# Altium integrated library Linear Technology Power Management LDO Linear Regulators.IntLib: 2339 symbols (part 125 of 131)
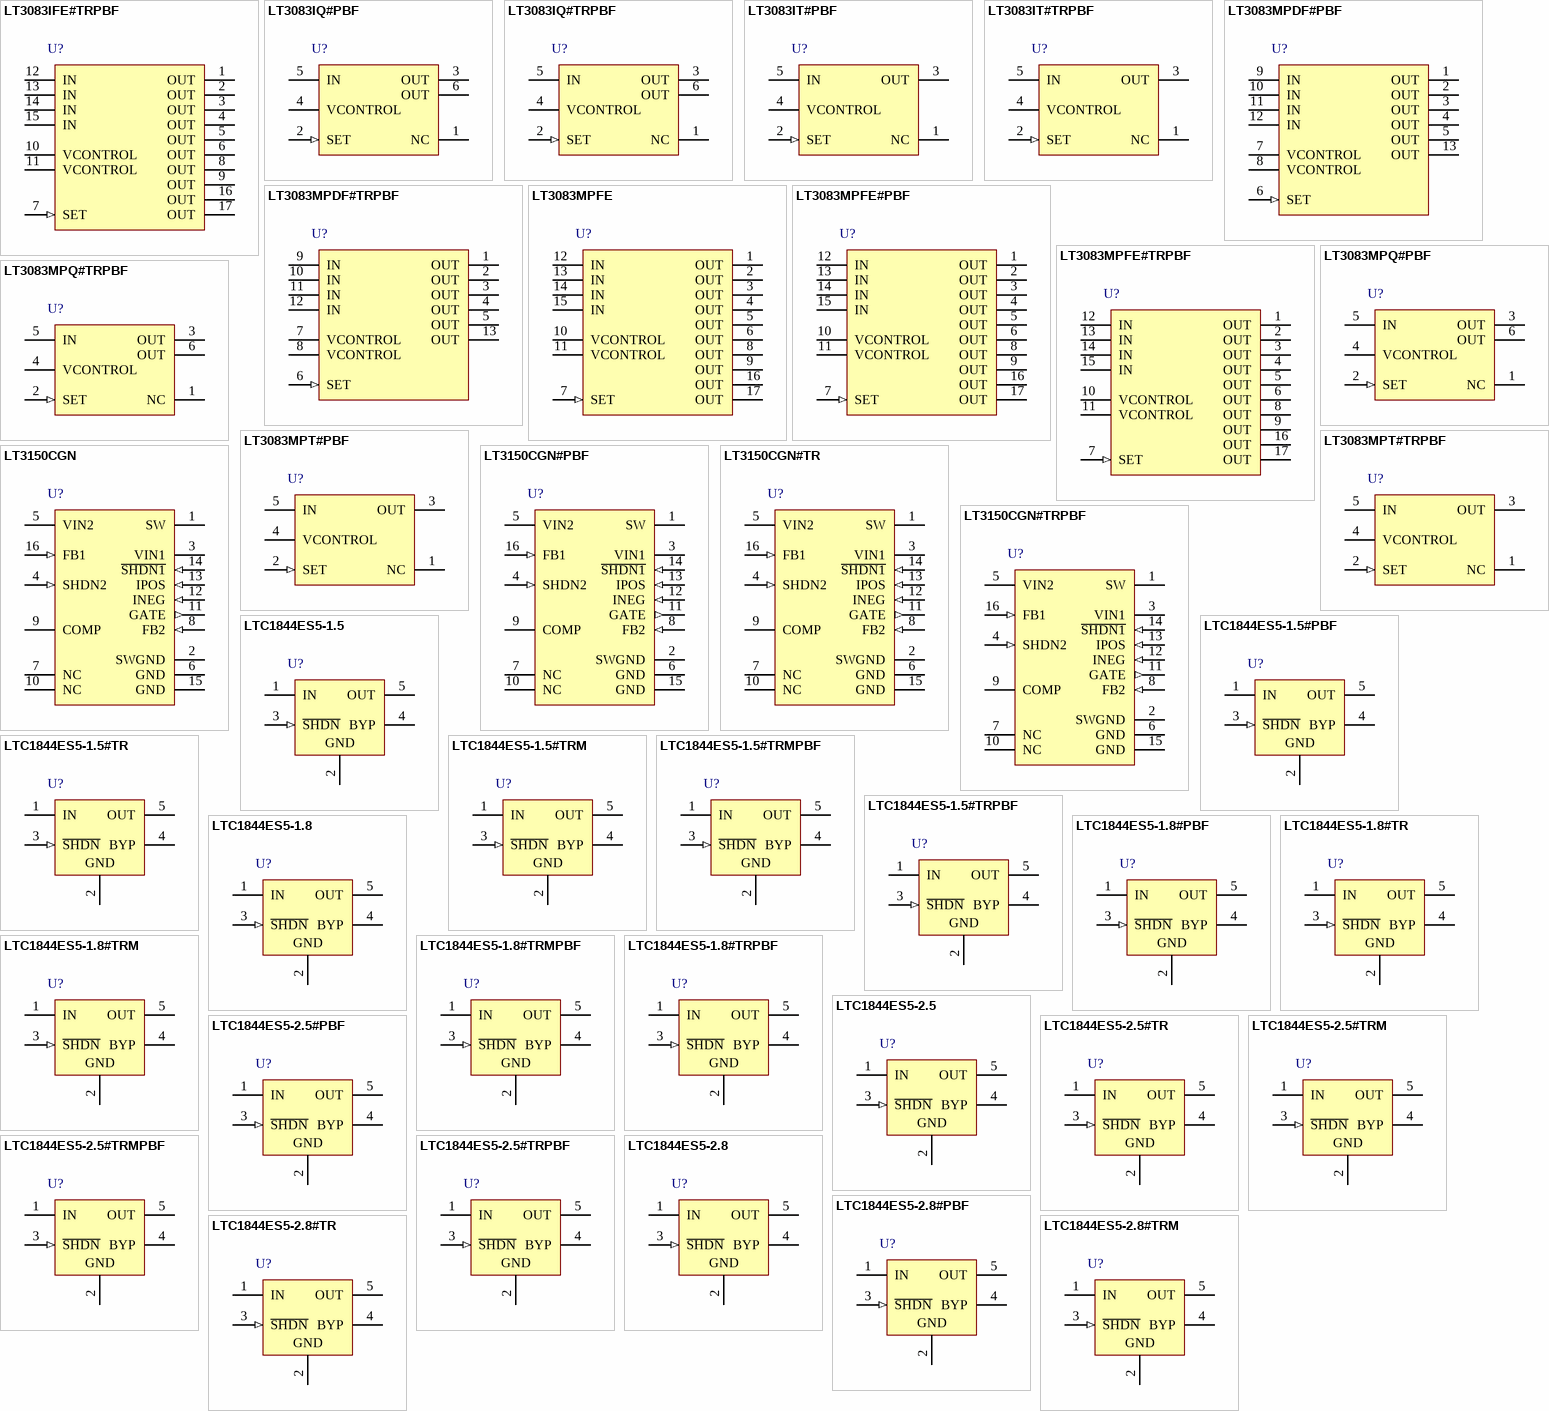
[diagram p193: symbols LT3083IFE#TRPBF to LTC1844ES5-2.8#TRM]

## LT3083MPQ#PBF
designator U?
3 A Single Resistor Low Dropout Regulator, 1.2 to 23 V Vin, Adjustable Vout, 5-pin DPAK (Q-5), -55 to 125 degC, Pb-Free; Manufacturer: Linear Technology; PartNumber: LT3083MPQ#PBF; Discrete Pass Element: no; Dropout Voltage(V): 0.31; Iout(mA): 3000; Isupply(mA): 0.35; Noise(uV): 40; Number of Outputs: 1; Output Voltage: Adj; PSRR(dB): 85; Shutdown Current(uA): 0; Vin Max(V): 23; Vin Min(V): 1.2; DatasheetVersion: Rev. A; PackageVersion: Rev. F, 09/2011; PackageReference: Q-5; PackageDescription: 5-Pin Plastic DD Pak, Body 10.2235 x 8.89 mm, Pitch 1.702 mm; Supplier 1: Digi-Key; Supplier Part Number 1: LT3083MPQ#PBF-ND; Supplier 2: Farnell; Supplier Part Number 2: 2295284; Supplier 3: Newark; Supplier Part Number 3: 27T4276; RoHS: TRUE; Vout Max(V): 23; Vout Min(V): 0; Mounting Technology: Surface Mount; ComponentLink1Description: Manufacturer URL; ComponentLink1URL: http://www.linear.com/; ComponentLink2Description: Datasheet; ComponentLink2URL: http://cds.linear.com/docs/en/datasheet/3083fa.pdf; ComponentLink3Description: Package Specification; ComponentLink3URL: http://cds.linear.com/docs/en/packaging/Q%20DD5%2005-08-1461%20Rev%20F.pdf
footprint LT-Q-5_N (DPAK, 5-Leads, Body 10.22x8.89mm, Pitch 1.702mm, IPC Medium Density)
footprint LT-Q-5_L (DPAK, 5-Leads, Body 10.22x8.89mm, Pitch 1.702mm, IPC High Density)
footprint LT-Q-5_M (DPAK, 5-Leads, Body 10.22x8.89mm, Pitch 1.702mm, IPC Low Density)
pins: 1 NC "No Connection. No Connect pins have no connection to internal circuitry and may be tied to VIN, VCONTROL, VOUT, GND, or floated.", 2 SET (in) "Set Point. This pin is the non-inverting input to the error amplifier and the regulation set point. A fixed current of 50uA flows out of this pin through a single external resistor, which programs the output voltage of the (See Datasheet)", 3 OUT (power) "Output. The exposed pad of the DF package (Pin 13) and the FE package (Pin 17) and the Tab of the DD-PAK and TO-220 packages is an electrical connection to OUT. Connect the exposed pad of the DF and FE packages and the Tab (See Datasheet)", 4 VCONTROL (power) "Bias Supply. This is the supply pin for the control circuitry of the device. Minimum input capacitance is 2.2uF (see Input Capacitance and Stability in the Applications Information section). The current flow into this pin is (See Datasheet)", 5 IN (power) "Power Input. This is the collector to the power device of the LT3083. The output load current is supplied through this pin. Minimum IN capacitance is 10uF (see Input Capacitance and Stability in Applications Information (See Datasheet)", 6 OUT (power) "TAB IS OUT."

## LT3083MPQ#TRPBF
designator U?
3 A Single Resistor Low Dropout Regulator, 1.2 to 23 V Vin, Adjustable Vout, 5-pin DPAK (Q-5), -55 to 125 degC, Pb-Free, Tape and Reel; Manufacturer: Linear Technology; PartNumber: LT3083MPQ#TRPBF; Discrete Pass Element: no; Dropout Voltage(V): 0.31; Iout(mA): 3000; Isupply(mA): 0.35; Noise(uV): 40; Number of Outputs: 1; Output Voltage: Adj; PSRR(dB): 85; Shutdown Current(uA): 0; Vin Max(V): 23; Vin Min(V): 1.2; DatasheetVersion: Rev. A; PackageVersion: Rev. F, 09/2011; PackageReference: Q-5; PackageDescription: 5-Pin Plastic DD Pak, Body 10.2235 x 8.89 mm, Pitch 1.702 mm; Supplier 1: Digi-Key; Supplier Part Number 1: LT3083MPQ#TRPBF-ND; Supplier 2: Newark; Supplier Part Number 2: 27T4277; Packing: Tape and Reel; RoHS: TRUE; Vout Max(V): 23; Vout Min(V): 0; Mounting Technology: Surface Mount; ComponentLink1Description: Manufacturer URL; ComponentLink1URL: http://www.linear.com/; ComponentLink2Description: Datasheet; ComponentLink2URL: http://cds.linear.com/docs/en/datasheet/3083fa.pdf; ComponentLink3Description: Package Specification; ComponentLink3URL: http://cds.linear.com/docs/en/packaging/Q%20DD5%2005-08-1461%20Rev%20F.pdf
footprint LT-Q-5_N (DPAK, 5-Leads, Body 10.22x8.89mm, Pitch 1.702mm, IPC Medium Density)
footprint LT-Q-5_L (DPAK, 5-Leads, Body 10.22x8.89mm, Pitch 1.702mm, IPC High Density)
footprint LT-Q-5_M (DPAK, 5-Leads, Body 10.22x8.89mm, Pitch 1.702mm, IPC Low Density)
pins: 1 NC "No Connection. No Connect pins have no connection to internal circuitry and may be tied to VIN, VCONTROL, VOUT, GND, or floated.", 2 SET (in) "Set Point. This pin is the non-inverting input to the error amplifier and the regulation set point. A fixed current of 50uA flows out of this pin through a single external resistor, which programs the output voltage of the (See Datasheet)", 3 OUT (power) "Output. The exposed pad of the DF package (Pin 13) and the FE package (Pin 17) and the Tab of the DD-PAK and TO-220 packages is an electrical connection to OUT. Connect the exposed pad of the DF and FE packages and the Tab (See Datasheet)", 4 VCONTROL (power) "Bias Supply. This is the supply pin for the control circuitry of the device. Minimum input capacitance is 2.2uF (see Input Capacitance and Stability in the Applications Information section). The current flow into this pin is (See Datasheet)", 5 IN (power) "Power Input. This is the collector to the power device of the LT3083. The output load current is supplied through this pin. Minimum IN capacitance is 10uF (see Input Capacitance and Stability in Applications Information (See Datasheet)", 6 OUT (power) "TAB IS OUT."

## LT3083MPT#PBF
designator U?
3 A Single Resistor Low Dropout Regulator, 1.2 to 23 V Vin, Adjustable Vout, 5-pin FM (T-5), -55 to 125 degC, Pb-Free; Manufacturer: Linear Technology; PartNumber: LT3083MPT#PBF; Discrete Pass Element: no; Dropout Voltage(V): 0.31; Iout(mA): 3000; Isupply(mA): 0.35; Noise(uV): 40; Number of Outputs: 1; Output Voltage: Adj; PSRR(dB): 85; Shutdown Current(uA): 0; Vin Max(V): 23; Vin Min(V): 1.2; DatasheetVersion: Rev. A; PackageVersion: Aug-10; PackageReference: T-5; PackageDescription: 5-Pin Plastic TO-220 (Standard), Body 10.224 x 8.89 mm, Pitch 1.7 mm; Supplier 1: Digi-Key; Supplier Part Number 1: LT3083MPT#PBF-ND; RoHS: TRUE; Vout Max(V): 23; Vout Min(V): 0; Mounting Technology: Through Hole; ComponentLink1Description: Manufacturer URL; ComponentLink1URL: http://www.linear.com/; ComponentLink2Description: Datasheet; ComponentLink2URL: http://cds.linear.com/docs/en/datasheet/3083fa.pdf; ComponentLink3Description: Package Specification; ComponentLink3URL: http://cds.linear.com/docs/en/packaging/TO-220_5_05-08-1421.pdf
footprint LT-T-5-S (FM, 5-Leads, Body 10.2235x4.3815mm, Pitch 1.7mm)
pins: 1 NC "No Connection. No Connect pins have no connection to internal circuitry and may be tied to VIN, VCONTROL, VOUT, GND, or floated.", 2 SET (in) "Set Point. This pin is the non-inverting input to the error amplifier and the regulation set point. A fixed current of 50uA flows out of this  pin through a single external resistor, which programs the output voltage of the (See Datasheet)", 3 OUT (power) "Output. The exposed pad of the DF package (Pin 13) and the FE package (Pin 17) and the Tab of the DD-PAK and TO-220 packages is an electrical connection to OUT. Connect the exposed pad of the DF and FE packages and the Tab (See Datasheet)", 4 VCONTROL (power) "Bias Supply. This is the supply pin for the control circuitry of the device. Minimum input capacitance is 2.2uF (see Input Capacitance and Stability in the Applications Information section). The current flow into this pin is (See Datasheet)", 5 IN (power) "Power Input. This is the collector to the power device of the LT3083. The output load current is supplied through this pin. Minimum IN capacitance is 10uF (see Input Capacitance and Stability in Applications Information (See Datasheet)"

## LT3083MPT#TRPBF
designator U?
3 A Single Resistor Low Dropout Regulator, 1.2 to 23 V Vin, Adjustable Vout, 5-pin FM (T-5), -55 to 125 degC, Pb-Free, Tape and Reel; Manufacturer: Linear Technology; PartNumber: LT3083MPT#TRPBF; Discrete Pass Element: no; Dropout Voltage(V): 0.31; Iout(mA): 3000; Isupply(mA): 0.35; Noise(uV): 40; Number of Outputs: 1; Output Voltage: Adj; PSRR(dB): 85; Shutdown Current(uA): 0; Vin Max(V): 23; Vin Min(V): 1.2; DatasheetVersion: Rev. A; PackageVersion: Aug-10; PackageReference: T-5; PackageDescription: 5-Pin Plastic TO-220 (Standard), Body 10.224 x 8.89 mm, Pitch 1.7 mm; Supplier 1: Digi-Key; Supplier Part Number 1: LT3083MPT#TRPBF-ND; Supplier 2: Newark; Supplier Part Number 2: 27T4279; Packing: Tape and Reel; RoHS: TRUE; Vout Max(V): 23; Vout Min(V): 0; Mounting Technology: Through Hole; ComponentLink1Description: Manufacturer URL; ComponentLink1URL: http://www.linear.com/; ComponentLink2Description: Datasheet; ComponentLink2URL: http://cds.linear.com/docs/en/datasheet/3083fa.pdf; ComponentLink3Description: Package Specification; ComponentLink3URL: http://cds.linear.com/docs/en/packaging/TO-220_5_05-08-1421.pdf
footprint LT-T-5-S (FM, 5-Leads, Body 10.2235x4.3815mm, Pitch 1.7mm)
pins: 1 NC "No Connection. No Connect pins have no connection to internal circuitry and may be tied to VIN, VCONTROL, VOUT, GND, or floated.", 2 SET (in) "Set Point. This pin is the non-inverting input to the error amplifier and the regulation set point. A fixed current of 50uA flows out of this  pin through a single external resistor, which programs the output voltage of the (See Datasheet)", 3 OUT (power) "Output. The exposed pad of the DF package (Pin 13) and the FE package (Pin 17) and the Tab of the DD-PAK and TO-220 packages is an electrical connection to OUT. Connect the exposed pad of the DF and FE packages and the Tab (See Datasheet)", 4 VCONTROL (power) "Bias Supply. This is the supply pin for the control circuitry of the device. Minimum input capacitance is 2.2uF (see Input Capacitance and Stability in the Applications Information section). The current flow into this pin is (See Datasheet)", 5 IN (power) "Power Input. This is the collector to the power device of the LT3083. The output load current is supplied through this pin. Minimum IN capacitance is 10uF (see Input Capacitance and Stability in Applications Information (See Datasheet)"

## LT3150CGN
designator U?
Fast Transient Response, Low Input Voltage, Very Low Dropout Linear Regulator Controller, 1.36 to 10 V Vin, Adjustable Vout, 16-pin SOP (GN-16), 0 to 70 degC; Manufacturer: Linear Technology; PartNumber: LT3150CGN; Discrete Pass Element: yes; Dropout Voltage(V): 0.13; Iout(mA): 10000; Isupply(mA): 12; Number of Outputs: 1; Output Voltage: Adj; Shutdown Current(uA): 25; Vin Max(V): 10; Vin Min(V): 1.36; Vout Max(V): 9.7; Vout Min(V): 1.21; PackageVersion: Rev. B, 03/2012; PackageReference: GN-16; PackageDescription: 16-Pin Plastic SSOP, Body 4.9 x 3.9 mm, Pitch 0.635 mm; Supplier 1: Digi-Key; Supplier Part Number 1: LT3150CGN-ND; RoHS: FALSE; Mounting Technology: Surface Mount; ComponentLink1Description: Manufacturer URL; ComponentLink1URL: http://www.linear.com/; ComponentLink2Description: Datasheet; ComponentLink2URL: http://cds.linear.com/docs/en/datasheet/3150f.pdf; ComponentLink3Description: Package Specification; ComponentLink3URL: http://cds.linear.com/docs/en/packaging/05081641_B_GN16.pdf
footprint LT-GN-16_N (SOP, 16-Leads, Body 4.9x3.9mm, Pitch 0.635mm, IPC Medium Density)
footprint LT-GN-16_L (SOP, 16-Leads, Body 4.9x3.9mm, Pitch 0.635mm, IPC High Density)
footprint LT-GN-16_M (SOP, 16-Leads, Body 4.9x3.9mm, Pitch 0.635mm, IPC Low Density)
pins: 1 SW "Boost Converter Switch Pin. Connect inductor/ diode here. Minimize trace area at this pin to keep EMI down.", 2 SWGND (power) "Switch Ground. Tie directly to the local ground plane and the GNDs at Pins 6 and 15.", 3 VIN1 (power) "Boost Converter Input Supply Pin. Must be locally bypassed.", 4 SHDN2 (in) "This is a multifunction shutdown pin that provides GATE drive latchoff capability. A 15mA current source, that turns on when current limit is activated, charges a capacitor placed in series with SHDN2 to GND and performs a (See Datasheet)", 5 VIN2 (power) "This is the input supply for the linear regulator control circuitry and provides sufficient gate drive compliance for the external N-channel MOSFET. The maximum operating VIN2 is 20V and the minimum operating VIN2 is set by (See Datasheet)", 6 GND (power) "Analog Ground. This pin is also the negative sense terminal for the internal 1.21V reference. Connect the LDO regulator external feedback divider network and frequency compensation components that terminate to GND directly (See Datasheet)", 7 NC "No Connect.", 8 FB2 (in) "This is the inverting input of the error amplifier for the linear regulator. The noninverting input is tied to the internal 1.21V reference. Input bias current for this pin is typically 0.6mA flowing out of the pin. Tie this (See Datasheet)", 9 COMP "This is the high impedance gain node of the error amplifier and is used for external frequency compensation. The transconductance of the error amplifier is 15 millimhos and open-loop voltage gain is typically 84dB. Frequency (See Datasheet)", 10 NC "No Connect.", 11 GATE (out) "This is the output of the error amplifier that drives N-channel MOSFETs with up to 5000pF of “effective" gate capacitance. The typical open-loop output impedance is 2W. When using low input capacitance MOSFETs(See Datasheet)", 12 INEG (in) "This is the negative sense terminal of the current limit amplifier. A small sense resistor is connected in series with the drain of the external MOSFET and is connected between the IPOS and INEG pins. A 50mV threshold (See Datasheet)", 13 IPOS (in) "This is the positive sense terminal of the current limit amplifier. Tie this pin directly to the main input voltage from which the output voltage is regulated.", 14 ~{SHDN1} (in) "Boost Regulator Shutdown Pin. Tie to 1V or more to enable device. Ground to shut down. This pin must not float for proper operation. Connect S\H\D\N\1\ externally as it does not incorporate an internal pull-up or pull-down.", 15 GND (power) "Boost Converter Analog Ground. This pin is also the negative sense terminal for the FB1 1.23V reference. Connect the external feedback divider network, which sets the VIN2 supply voltage and terminates to GND, directly to (See Datasheet)", 16 FB1 (in) "Boost Regulator Feedback Pin. Reference voltage is 1.23V. Connect resistive divider tap here. Minimize trace area at FB1. Set VOUT = VIN2 according to VOUT = 1.23V(1 + R1/R2)."

## LT3150CGN#PBF
designator U?
Fast Transient Response, Low Input Voltage, Very Low Dropout Linear Regulator Controller, 1.36 to 10 V Vin, Adjustable Vout, 16-pin SOP (GN-16), 0 to 70 degC, Pb-Free; Manufacturer: Linear Technology; PartNumber: LT3150CGN#PBF; Discrete Pass Element: yes; Dropout Voltage(V): 0.13; Iout(mA): 10000; Isupply(mA): 12; Number of Outputs: 1; Output Voltage: Adj; Shutdown Current(uA): 25; Vin Max(V): 10; Vin Min(V): 1.36; Vout Max(V): 9.7; Vout Min(V): 1.21; PackageVersion: Rev. B, 03/2012; PackageReference: GN-16; PackageDescription: 16-Pin Plastic SSOP, Body 4.9 x 3.9 mm, Pitch 0.635 mm; Supplier 1: Digi-Key; Supplier Part Number 1: LT3150CGN#PBF-ND; Supplier 2: Farnell; Supplier Part Number 2: 1273642; Supplier 3: Newark; Supplier Part Number 3: 57M8058; RoHS: TRUE; Mounting Technology: Surface Mount; ComponentLink1Description: Manufacturer URL; ComponentLink1URL: http://www.linear.com/; ComponentLink2Description: Datasheet; ComponentLink2URL: http://cds.linear.com/docs/en/datasheet/3150f.pdf; ComponentLink3Description: Package Specification; ComponentLink3URL: http://cds.linear.com/docs/en/packaging/05081641_B_GN16.pdf
footprint LT-GN-16_N (SOP, 16-Leads, Body 4.9x3.9mm, Pitch 0.635mm, IPC Medium Density)
footprint LT-GN-16_L (SOP, 16-Leads, Body 4.9x3.9mm, Pitch 0.635mm, IPC High Density)
footprint LT-GN-16_M (SOP, 16-Leads, Body 4.9x3.9mm, Pitch 0.635mm, IPC Low Density)
pins: 1 SW "Boost Converter Switch Pin. Connect inductor/ diode here. Minimize trace area at this pin to keep EMI down.", 2 SWGND (power) "Switch Ground. Tie directly to the local ground plane and the GNDs at Pins 6 and 15.", 3 VIN1 (power) "Boost Converter Input Supply Pin. Must be locally bypassed.", 4 SHDN2 (in) "This is a multifunction shutdown pin that provides GATE drive latchoff capability. A 15mA current source, that turns on when current limit is activated, charges a capacitor placed in series with SHDN2 to GND and performs a (See Datasheet)", 5 VIN2 (power) "This is the input supply for the linear regulator control circuitry and provides sufficient gate drive compliance for the external N-channel MOSFET. The maximum operating VIN2 is 20V and the minimum operating VIN2 is set by (See Datasheet)", 6 GND (power) "Analog Ground. This pin is also the negative sense terminal for the internal 1.21V reference. Connect the LDO regulator external feedback divider network and frequency compensation components that terminate to GND directly (See Datasheet)", 7 NC "No Connect.", 8 FB2 (in) "This is the inverting input of the error amplifier for the linear regulator. The noninverting input is tied to the internal 1.21V reference. Input bias current for this pin is typically 0.6mA flowing out of the pin. Tie this (See Datasheet)", 9 COMP "This is the high impedance gain node of the error amplifier and is used for external frequency compensation. The transconductance of the error amplifier is 15 millimhos and open-loop voltage gain is typically 84dB. Frequency (See Datasheet)", 10 NC "No Connect.", 11 GATE (out) "This is the output of the error amplifier that drives N-channel MOSFETs with up to 5000pF of “effective" gate capacitance. The typical open-loop output impedance is 2W. When using low input capacitance MOSFETs(See Datasheet)", 12 INEG (in) "This is the negative sense terminal of the current limit amplifier. A small sense resistor is connected in series with the drain of the external MOSFET and is connected between the IPOS and INEG pins. A 50mV threshold (See Datasheet)", 13 IPOS (in) "This is the positive sense terminal of the current limit amplifier. Tie this pin directly to the main input voltage from which the output voltage is regulated.", 14 ~{SHDN1} (in) "Boost Regulator Shutdown Pin. Tie to 1V or more to enable device. Ground to shut down. This pin must not float for proper operation. Connect S\H\D\N\1\ externally as it does not incorporate an internal pull-up or pull-down.", 15 GND (power) "Boost Converter Analog Ground. This pin is also the negative sense terminal for the FB1 1.23V reference. Connect the external feedback divider network, which sets the VIN2 supply voltage and terminates to GND, directly to (See Datasheet)", 16 FB1 (in) "Boost Regulator Feedback Pin. Reference voltage is 1.23V. Connect resistive divider tap here. Minimize trace area at FB1. Set VOUT = VIN2 according to VOUT = 1.23V(1 + R1/R2)."

## LT3150CGN#TR
designator U?
Fast Transient Response, Low Input Voltage, Very Low Dropout Linear Regulator Controller, 1.36 to 10 V Vin, Adjustable Vout, 16-pin SOP (GN-16), 0 to 70 degC, Tape and Reel; Manufacturer: Linear Technology; PartNumber: LT3150CGN#TR; Discrete Pass Element: yes; Dropout Voltage(V): 0.13; Iout(mA): 10000; Isupply(mA): 12; Number of Outputs: 1; Output Voltage: Adj; Shutdown Current(uA): 25; Vin Max(V): 10; Vin Min(V): 1.36; Vout Max(V): 9.7; Vout Min(V): 1.21; PackageVersion: Rev. B, 03/2012; PackageReference: GN-16; PackageDescription: 16-Pin Plastic SSOP, Body 4.9 x 3.9 mm, Pitch 0.635 mm; Supplier 1: Digi-Key; Supplier Part Number 1: LT3150CGN#TR-ND; Packing: Tape and Reel; RoHS: FALSE; Mounting Technology: Surface Mount; ComponentLink1Description: Manufacturer URL; ComponentLink1URL: http://www.linear.com/; ComponentLink2Description: Datasheet; ComponentLink2URL: http://cds.linear.com/docs/en/datasheet/3150f.pdf; ComponentLink3Description: Package Specification; ComponentLink3URL: http://cds.linear.com/docs/en/packaging/05081641_B_GN16.pdf
footprint LT-GN-16_N (SOP, 16-Leads, Body 4.9x3.9mm, Pitch 0.635mm, IPC Medium Density)
footprint LT-GN-16_L (SOP, 16-Leads, Body 4.9x3.9mm, Pitch 0.635mm, IPC High Density)
footprint LT-GN-16_M (SOP, 16-Leads, Body 4.9x3.9mm, Pitch 0.635mm, IPC Low Density)
pins: 1 SW "Boost Converter Switch Pin. Connect inductor/ diode here. Minimize trace area at this pin to keep EMI down.", 2 SWGND (power) "Switch Ground. Tie directly to the local ground plane and the GNDs at Pins 6 and 15.", 3 VIN1 (power) "Boost Converter Input Supply Pin. Must be locally bypassed.", 4 SHDN2 (in) "This is a multifunction shutdown pin that provides GATE drive latchoff capability. A 15mA current source, that turns on when current limit is activated, charges a capacitor placed in series with SHDN2 to GND and performs a (See Datasheet)", 5 VIN2 (power) "This is the input supply for the linear regulator control circuitry and provides sufficient gate drive compliance for the external N-channel MOSFET. The maximum operating VIN2 is 20V and the minimum operating VIN2 is set by (See Datasheet)", 6 GND (power) "Analog Ground. This pin is also the negative sense terminal for the internal 1.21V reference. Connect the LDO regulator external feedback divider network and frequency compensation components that terminate to GND directly (See Datasheet)", 7 NC "No Connect.", 8 FB2 (in) "This is the inverting input of the error amplifier for the linear regulator. The noninverting input is tied to the internal 1.21V reference. Input bias current for this pin is typically 0.6mA flowing out of the pin. Tie this (See Datasheet)", 9 COMP "This is the high impedance gain node of the error amplifier and is used for external frequency compensation. The transconductance of the error amplifier is 15 millimhos and open-loop voltage gain is typically 84dB. Frequency (See Datasheet)", 10 NC "No Connect.", 11 GATE (out) "This is the output of the error amplifier that drives N-channel MOSFETs with up to 5000pF of “effective" gate capacitance. The typical open-loop output impedance is 2W. When using low input capacitance MOSFETs(See Datasheet)", 12 INEG (in) "This is the negative sense terminal of the current limit amplifier. A small sense resistor is connected in series with the drain of the external MOSFET and is connected between the IPOS and INEG pins. A 50mV threshold (See Datasheet)", 13 IPOS (in) "This is the positive sense terminal of the current limit amplifier. Tie this pin directly to the main input voltage from which the output voltage is regulated.", 14 ~{SHDN1} (in) "Boost Regulator Shutdown Pin. Tie to 1V or more to enable device. Ground to shut down. This pin must not float for proper operation. Connect S\H\D\N\1\ externally as it does not incorporate an internal pull-up or pull-down.", 15 GND (power) "Boost Converter Analog Ground. This pin is also the negative sense terminal for the FB1 1.23V reference. Connect the external feedback divider network, which sets the VIN2 supply voltage and terminates to GND, directly to (See Datasheet)", 16 FB1 (in) "Boost Regulator Feedback Pin. Reference voltage is 1.23V. Connect resistive divider tap here. Minimize trace area at FB1. Set VOUT = VIN2 according to VOUT = 1.23V(1 + R1/R2)."

## LT3150CGN#TRPBF
designator U?
Fast Transient Response, Low Input Voltage, Very Low Dropout Linear Regulator Controller, 1.36 to 10 V Vin, Adjustable Vout, 16-pin SOP (GN-16), 0 to 70 degC, Pb-Free, Tape and Reel; Manufacturer: Linear Technology; PartNumber: LT3150CGN#TRPBF; Discrete Pass Element: yes; Dropout Voltage(V): 0.13; Iout(mA): 10000; Isupply(mA): 12; Number of Outputs: 1; Output Voltage: Adj; Shutdown Current(uA): 25; Vin Max(V): 10; Vin Min(V): 1.36; Vout Max(V): 9.7; Vout Min(V): 1.21; PackageVersion: Rev. B, 03/2012; PackageReference: GN-16; PackageDescription: 16-Pin Plastic SSOP, Body 4.9 x 3.9 mm, Pitch 0.635 mm; Supplier 1: Digi-Key; Supplier Part Number 1: LT3150CGN#TRPBF-ND; Packing: Tape and Reel; RoHS: TRUE; Mounting Technology: Surface Mount; ComponentLink1Description: Manufacturer URL; ComponentLink1URL: http://www.linear.com/; ComponentLink2Description: Datasheet; ComponentLink2URL: http://cds.linear.com/docs/en/datasheet/3150f.pdf; ComponentLink3Description: Package Specification; ComponentLink3URL: http://cds.linear.com/docs/en/packaging/05081641_B_GN16.pdf
footprint LT-GN-16_N (SOP, 16-Leads, Body 4.9x3.9mm, Pitch 0.635mm, IPC Medium Density)
footprint LT-GN-16_L (SOP, 16-Leads, Body 4.9x3.9mm, Pitch 0.635mm, IPC High Density)
footprint LT-GN-16_M (SOP, 16-Leads, Body 4.9x3.9mm, Pitch 0.635mm, IPC Low Density)
pins: 1 SW "Boost Converter Switch Pin. Connect inductor/ diode here. Minimize trace area at this pin to keep EMI down.", 2 SWGND (power) "Switch Ground. Tie directly to the local ground plane and the GNDs at Pins 6 and 15.", 3 VIN1 (power) "Boost Converter Input Supply Pin. Must be locally bypassed.", 4 SHDN2 (in) "This is a multifunction shutdown pin that provides GATE drive latchoff capability. A 15mA current source, that turns on when current limit is activated, charges a capacitor placed in series with SHDN2 to GND and performs a (See Datasheet)", 5 VIN2 (power) "This is the input supply for the linear regulator control circuitry and provides sufficient gate drive compliance for the external N-channel MOSFET. The maximum operating VIN2 is 20V and the minimum operating VIN2 is set by (See Datasheet)", 6 GND (power) "Analog Ground. This pin is also the negative sense terminal for the internal 1.21V reference. Connect the LDO regulator external feedback divider network and frequency compensation components that terminate to GND directly (See Datasheet)", 7 NC "No Connect.", 8 FB2 (in) "This is the inverting input of the error amplifier for the linear regulator. The noninverting input is tied to the internal 1.21V reference. Input bias current for this pin is typically 0.6mA flowing out of the pin. Tie this (See Datasheet)", 9 COMP "This is the high impedance gain node of the error amplifier and is used for external frequency compensation. The transconductance of the error amplifier is 15 millimhos and open-loop voltage gain is typically 84dB. Frequency (See Datasheet)", 10 NC "No Connect.", 11 GATE (out) "This is the output of the error amplifier that drives N-channel MOSFETs with up to 5000pF of “effective" gate capacitance. The typical open-loop output impedance is 2W. When using low input capacitance MOSFETs(See Datasheet)", 12 INEG (in) "This is the negative sense terminal of the current limit amplifier. A small sense resistor is connected in series with the drain of the external MOSFET and is connected between the IPOS and INEG pins. A 50mV threshold (See Datasheet)", 13 IPOS (in) "This is the positive sense terminal of the current limit amplifier. Tie this pin directly to the main input voltage from which the output voltage is regulated.", 14 ~{SHDN1} (in) "Boost Regulator Shutdown Pin. Tie to 1V or more to enable device. Ground to shut down. This pin must not float for proper operation. Connect S\H\D\N\1\ externally as it does not incorporate an internal pull-up or pull-down.", 15 GND (power) "Boost Converter Analog Ground. This pin is also the negative sense terminal for the FB1 1.23V reference. Connect the external feedback divider network, which sets the VIN2 supply voltage and terminates to GND, directly to (See Datasheet)", 16 FB1 (in) "Boost Regulator Feedback Pin. Reference voltage is 1.23V. Connect resistive divider tap here. Minimize trace area at FB1. Set VOUT = VIN2 according to VOUT = 1.23V(1 + R1/R2)."

## LTC1844ES5-1.5
designator U?
150 mA, Micropower, Low Noise, VLDO Linear Regulator, 1.6 to 6.5 V Vin, 1.5 V Vout, 5-pin SOT23 (S5-5), -40 to 125 degC; Manufacturer: Linear Technology; PartNumber: LTC1844ES5-1.5; Discrete Pass Element: no; Dropout Voltage(V): 0.35; Iout(mA): 150; Isupply(mA): 0.035; Noise(uV): 60; Number of Outputs: 1; Output Voltage: 1.5 V; PSRR(dB): 50; Shutdown Current(uA): 0.01; Vin Max(V): 6.5; Vin Min(V): 1.6; DatasheetVersion: Rev. A; PackageVersion: Jun-10; PackageReference: S5-5; PackageDescription: 5-Pin Plastic TSOT-23, Body 1.63 x 2.90 mm, Pitch 0.95 mm; RoHS: FALSE; Mounting Technology: Surface Mount; Code_JEDEC: MO-193; ComponentLink1Description: Manufacturer URL; ComponentLink1URL: http://www.linear.com/; ComponentLink2Description: Datasheet; ComponentLink2URL: http://cds.linear.com/docs/en/datasheet/1844fa.pdf; ComponentLink3Description: Package Specification; ComponentLink3URL: http://cds.linear.com/docs/en/packaging/SOT_5_05-08-1635.pdf
footprint LT-S5-5-TSOT-23_N (SOT23, 5-Leads, Body 2.90x1.63mm, Pitch 0.95mm, IPC Medium Density)
footprint LT-S5-5-TSOT-23_L (SOT23, 5-Leads, Body 2.90x1.63mm, Pitch 0.95mm, IPC High Density)
footprint LT-S5-5-TSOT-23_M (SOT23, 5-Leads, Body 2.90x1.63mm, Pitch 0.95mm, IPC Low Density)
pins: 1 IN (power) "Power is supplied to the device through the IN pin.", 2 GND (power) "Ground.", 3 ~{SHDN} (in) "Shutdown.", 4 BYP "Bypass. If not used, this pin must be left unconnected.", 5 OUT (power) "The output supplies power to the load. A minimum output capacitor of 1uF is required to prevent oscillations. Larger output capacitors will be required for applications with large transient loads to limit peak voltage (See Datasheet)"

## LTC1844ES5-1.5#PBF
designator U?
150 mA, Micropower, Low Noise, VLDO Linear Regulator, 1.6 to 6.5 V Vin, 1.5 V Vout, 5-pin SOT23 (S5-5), -40 to 125 degC, Pb-Free; Manufacturer: Linear Technology; PartNumber: LTC1844ES5-1.5#PBF; Discrete Pass Element: no; Dropout Voltage(V): 0.35; Iout(mA): 150; Isupply(mA): 0.035; Noise(uV): 60; Number of Outputs: 1; Output Voltage: 1.5 V; PSRR(dB): 50; Shutdown Current(uA): 0.01; Vin Max(V): 6.5; Vin Min(V): 1.6; DatasheetVersion: Rev. A; PackageVersion: Jun-10; PackageReference: S5-5; PackageDescription: 5-Pin Plastic TSOT-23, Body 1.63 x 2.90 mm, Pitch 0.95 mm; Supplier 1: Farnell; Supplier Part Number 1: 2295287; Supplier 2: Newark; Supplier Part Number 2: 78T2529; RoHS: TRUE; Mounting Technology: Surface Mount; Code_JEDEC: MO-193; ComponentLink1Description: Manufacturer URL; ComponentLink1URL: http://www.linear.com/; ComponentLink2Description: Datasheet; ComponentLink2URL: http://cds.linear.com/docs/en/datasheet/1844fa.pdf; ComponentLink3Description: Package Specification; ComponentLink3URL: http://cds.linear.com/docs/en/packaging/SOT_5_05-08-1635.pdf
footprint LT-S5-5-TSOT-23_N (SOT23, 5-Leads, Body 2.90x1.63mm, Pitch 0.95mm, IPC Medium Density)
footprint LT-S5-5-TSOT-23_L (SOT23, 5-Leads, Body 2.90x1.63mm, Pitch 0.95mm, IPC High Density)
footprint LT-S5-5-TSOT-23_M (SOT23, 5-Leads, Body 2.90x1.63mm, Pitch 0.95mm, IPC Low Density)
pins: 1 IN (power) "Power is supplied to the device through the IN pin.", 2 GND (power) "Ground.", 3 ~{SHDN} (in) "Shutdown.", 4 BYP "Bypass. If not used, this pin must be left unconnected.", 5 OUT (power) "The output supplies power to the load. A minimum output capacitor of 1uF is required to prevent oscillations. Larger output capacitors will be required for applications with large transient loads to limit peak voltage (See Datasheet)"

## LTC1844ES5-1.5#TR
designator U?
150 mA, Micropower, Low Noise, VLDO Linear Regulator, 1.6 to 6.5 V Vin, 1.5 V Vout, 5-pin SOT23 (S5-5), -40 to 125 degC, Tape and Reel; Manufacturer: Linear Technology; PartNumber: LTC1844ES5-1.5#TR; Discrete Pass Element: no; Dropout Voltage(V): 0.35; Iout(mA): 150; Isupply(mA): 0.035; Noise(uV): 60; Number of Outputs: 1; Output Voltage: 1.5 V; PSRR(dB): 50; Shutdown Current(uA): 0.01; Vin Max(V): 6.5; Vin Min(V): 1.6; DatasheetVersion: Rev. A; PackageVersion: Jun-10; PackageReference: S5-5; PackageDescription: 5-Pin Plastic TSOT-23, Body 1.63 x 2.90 mm, Pitch 0.95 mm; Supplier 1: Digi-Key; Supplier Part Number 1: LTC1844ES5-1.5#TR-ND; Packing: Tape and Reel; RoHS: FALSE; Mounting Technology: Surface Mount; Code_JEDEC: MO-193; ComponentLink1Description: Manufacturer URL; ComponentLink1URL: http://www.linear.com/; ComponentLink2Description: Datasheet; ComponentLink2URL: http://cds.linear.com/docs/en/datasheet/1844fa.pdf; ComponentLink3Description: Package Specification; ComponentLink3URL: http://cds.linear.com/docs/en/packaging/SOT_5_05-08-1635.pdf
footprint LT-S5-5-TSOT-23_N (SOT23, 5-Leads, Body 2.90x1.63mm, Pitch 0.95mm, IPC Medium Density)
footprint LT-S5-5-TSOT-23_L (SOT23, 5-Leads, Body 2.90x1.63mm, Pitch 0.95mm, IPC High Density)
footprint LT-S5-5-TSOT-23_M (SOT23, 5-Leads, Body 2.90x1.63mm, Pitch 0.95mm, IPC Low Density)
pins: 1 IN (power) "Power is supplied to the device through the IN pin.", 2 GND (power) "Ground.", 3 ~{SHDN} (in) "Shutdown.", 4 BYP "Bypass. If not used, this pin must be left unconnected.", 5 OUT (power) "The output supplies power to the load. A minimum output capacitor of 1uF is required to prevent oscillations. Larger output capacitors will be required for applications with large transient loads to limit peak voltage (See Datasheet)"

## LTC1844ES5-1.5#TRM
designator U?
150 mA, Micropower, Low Noise, VLDO Linear Regulator, 1.6 to 6.5 V Vin, 1.5 V Vout, 5-pin SOT23 (S5-5), -40 to 125 degC, Mini Tape and Reel; Manufacturer: Linear Technology; PartNumber: LTC1844ES5-1.5#TRM; Discrete Pass Element: no; Dropout Voltage(V): 0.35; Iout(mA): 150; Isupply(mA): 0.035; Noise(uV): 60; Number of Outputs: 1; Output Voltage: 1.5 V; PSRR(dB): 50; Shutdown Current(uA): 0.01; Vin Max(V): 6.5; Vin Min(V): 1.6; DatasheetVersion: Rev. A; PackageVersion: Jun-10; PackageReference: S5-5; PackageDescription: 5-Pin Plastic TSOT-23, Body 1.63 x 2.90 mm, Pitch 0.95 mm; Supplier 1: Digi-Key; Supplier Part Number 1: LTC1844ES5-1.5#TRMCT-ND; Packing: Mini Tape and Reel; RoHS: FALSE; Mounting Technology: Surface Mount; Code_JEDEC: MO-193; ComponentLink1Description: Manufacturer URL; ComponentLink1URL: http://www.linear.com/; ComponentLink2Description: Datasheet; ComponentLink2URL: http://cds.linear.com/docs/en/datasheet/1844fa.pdf; ComponentLink3Description: Package Specification; ComponentLink3URL: http://cds.linear.com/docs/en/packaging/SOT_5_05-08-1635.pdf
footprint LT-S5-5-TSOT-23_N (SOT23, 5-Leads, Body 2.90x1.63mm, Pitch 0.95mm, IPC Medium Density)
footprint LT-S5-5-TSOT-23_L (SOT23, 5-Leads, Body 2.90x1.63mm, Pitch 0.95mm, IPC High Density)
footprint LT-S5-5-TSOT-23_M (SOT23, 5-Leads, Body 2.90x1.63mm, Pitch 0.95mm, IPC Low Density)
pins: 1 IN (power) "Power is supplied to the device through the IN pin.", 2 GND (power) "Ground.", 3 ~{SHDN} (in) "Shutdown.", 4 BYP "Bypass. If not used, this pin must be left unconnected.", 5 OUT (power) "The output supplies power to the load. A minimum output capacitor of 1uF is required to prevent oscillations. Larger output capacitors will be required for applications with large transient loads to limit peak voltage (See Datasheet)"

## LTC1844ES5-1.5#TRMPBF
designator U?
150 mA, Micropower, Low Noise, VLDO Linear Regulator, 1.6 to 6.5 V Vin, 1.5 V Vout, 5-pin SOT23 (S5-5), -40 to 125 degC, Pb-Free, Mini Tape and Reel; Manufacturer: Linear Technology; PartNumber: LTC1844ES5-1.5#TRMPBF; Discrete Pass Element: no; Dropout Voltage(V): 0.35; Iout(mA): 150; Isupply(mA): 0.035; Noise(uV): 60; Number of Outputs: 1; Output Voltage: 1.5 V; PSRR(dB): 50; Shutdown Current(uA): 0.01; Vin Max(V): 6.5; Vin Min(V): 1.6; DatasheetVersion: Rev. A; PackageVersion: Jun-10; PackageReference: S5-5; PackageDescription: 5-Pin Plastic TSOT-23, Body 1.63 x 2.90 mm, Pitch 0.95 mm; Supplier 1: Digi-Key; Supplier Part Number 1: LTC1844ES5-1.5#TRMPBFTR-ND; Supplier 2: Digi-Key; Supplier Part Number 2: LTC1844ES5-1.5#TRMPBFCT-ND; Supplier 3: Digi-Key; Supplier Part Number 3: LTC1844ES5-1.5#TRMPBFDKR-ND; Supplier 4: Newark; Supplier Part Number 4: 56M3915; Packing: Mini Tape and Reel; RoHS: TRUE; Mounting Technology: Surface Mount; Code_JEDEC: MO-193; ComponentLink1Description: Manufacturer URL; ComponentLink1URL: http://www.linear.com/; ComponentLink2Description: Datasheet; ComponentLink2URL: http://cds.linear.com/docs/en/datasheet/1844fa.pdf; ComponentLink3Description: Package Specification; ComponentLink3URL: http://cds.linear.com/docs/en/packaging/SOT_5_05-08-1635.pdf
footprint LT-S5-5-TSOT-23_N (SOT23, 5-Leads, Body 2.90x1.63mm, Pitch 0.95mm, IPC Medium Density)
footprint LT-S5-5-TSOT-23_L (SOT23, 5-Leads, Body 2.90x1.63mm, Pitch 0.95mm, IPC High Density)
footprint LT-S5-5-TSOT-23_M (SOT23, 5-Leads, Body 2.90x1.63mm, Pitch 0.95mm, IPC Low Density)
pins: 1 IN (power) "Power is supplied to the device through the IN pin.", 2 GND (power) "Ground.", 3 ~{SHDN} (in) "Shutdown.", 4 BYP "Bypass. If not used, this pin must be left unconnected.", 5 OUT (power) "The output supplies power to the load. A minimum output capacitor of 1uF is required to prevent oscillations. Larger output capacitors will be required for applications with large transient loads to limit peak voltage (See Datasheet)"

## LTC1844ES5-1.5#TRPBF
designator U?
150 mA, Micropower, Low Noise, VLDO Linear Regulator, 1.6 to 6.5 V Vin, 1.5 V Vout, 5-pin SOT23 (S5-5), -40 to 125 degC, Pb-Free, Tape and Reel; Manufacturer: Linear Technology; PartNumber: LTC1844ES5-1.5#TRPBF; Discrete Pass Element: no; Dropout Voltage(V): 0.35; Iout(mA): 150; Isupply(mA): 0.035; Noise(uV): 60; Number of Outputs: 1; Output Voltage: 1.5 V; PSRR(dB): 50; Shutdown Current(uA): 0.01; Vin Max(V): 6.5; Vin Min(V): 1.6; DatasheetVersion: Rev. A; PackageVersion: Jun-10; PackageReference: S5-5; PackageDescription: 5-Pin Plastic TSOT-23, Body 1.63 x 2.90 mm, Pitch 0.95 mm; Supplier 1: Digi-Key; Supplier Part Number 1: LTC1844ES5-1.5#TRPBF-ND; Supplier 2: Newark; Supplier Part Number 2: 56M3916; Packing: Tape and Reel; RoHS: TRUE; Mounting Technology: Surface Mount; Code_JEDEC: MO-193; ComponentLink1Description: Manufacturer URL; ComponentLink1URL: http://www.linear.com/; ComponentLink2Description: Datasheet; ComponentLink2URL: http://cds.linear.com/docs/en/datasheet/1844fa.pdf; ComponentLink3Description: Package Specification; ComponentLink3URL: http://cds.linear.com/docs/en/packaging/SOT_5_05-08-1635.pdf
footprint LT-S5-5-TSOT-23_N (SOT23, 5-Leads, Body 2.90x1.63mm, Pitch 0.95mm, IPC Medium Density)
footprint LT-S5-5-TSOT-23_L (SOT23, 5-Leads, Body 2.90x1.63mm, Pitch 0.95mm, IPC High Density)
footprint LT-S5-5-TSOT-23_M (SOT23, 5-Leads, Body 2.90x1.63mm, Pitch 0.95mm, IPC Low Density)
pins: 1 IN (power) "Power is supplied to the device through the IN pin.", 2 GND (power) "Ground.", 3 ~{SHDN} (in) "Shutdown.", 4 BYP "Bypass. If not used, this pin must be left unconnected.", 5 OUT (power) "The output supplies power to the load. A minimum output capacitor of 1uF is required to prevent oscillations. Larger output capacitors will be required for applications with large transient loads to limit peak voltage (See Datasheet)"

## LTC1844ES5-1.8
designator U?
150 mA, Micropower, Low Noise, VLDO Linear Regulator, 1.6 to 6.5 V Vin, 1.8 V Vout, 5-pin SOT23 (S5-5), -40 to 125 degC; Manufacturer: Linear Technology; PartNumber: LTC1844ES5-1.8; Discrete Pass Element: no; Dropout Voltage(V): 0.23; Iout(mA): 150; Isupply(mA): 0.035; Noise(uV): 60; Number of Outputs: 1; Output Voltage: 1.8 V; PSRR(dB): 50; Shutdown Current(uA): 0.01; Vin Max(V): 6.5; Vin Min(V): 1.6; DatasheetVersion: Rev. A; PackageVersion: Jun-10; PackageReference: S5-5; PackageDescription: 5-Pin Plastic TSOT-23, Body 1.63 x 2.90 mm, Pitch 0.95 mm; RoHS: FALSE; Mounting Technology: Surface Mount; Code_JEDEC: MO-193; ComponentLink1Description: Manufacturer URL; ComponentLink1URL: http://www.linear.com/; ComponentLink2Description: Datasheet; ComponentLink2URL: http://cds.linear.com/docs/en/datasheet/1844fa.pdf; ComponentLink3Description: Package Specification; ComponentLink3URL: http://cds.linear.com/docs/en/packaging/SOT_5_05-08-1635.pdf
footprint LT-S5-5-TSOT-23_N (SOT23, 5-Leads, Body 2.90x1.63mm, Pitch 0.95mm, IPC Medium Density)
footprint LT-S5-5-TSOT-23_L (SOT23, 5-Leads, Body 2.90x1.63mm, Pitch 0.95mm, IPC High Density)
footprint LT-S5-5-TSOT-23_M (SOT23, 5-Leads, Body 2.90x1.63mm, Pitch 0.95mm, IPC Low Density)
pins: 1 IN (power) "Power is supplied to the device through the IN pin.", 2 GND (power) "Ground.", 3 ~{SHDN} (in) "Shutdown.", 4 BYP "Bypass. If not used, this pin must be left unconnected.", 5 OUT (power) "The output supplies power to the load. A minimum output capacitor of 1uF is required to prevent oscillations. Larger output capacitors will be required for applications with large transient loads to limit peak voltage (See Datasheet)"

## LTC1844ES5-1.8#PBF
designator U?
150 mA, Micropower, Low Noise, VLDO Linear Regulator, 1.6 to 6.5 V Vin, 1.8 V Vout, 5-pin SOT23 (S5-5), -40 to 125 degC, Pb-Free; Manufacturer: Linear Technology; PartNumber: LTC1844ES5-1.8#PBF; Discrete Pass Element: no; Dropout Voltage(V): 0.23; Iout(mA): 150; Isupply(mA): 0.035; Noise(uV): 60; Number of Outputs: 1; Output Voltage: 1.8 V; PSRR(dB): 50; Shutdown Current(uA): 0.01; Vin Max(V): 6.5; Vin Min(V): 1.6; DatasheetVersion: Rev. A; PackageVersion: Jun-10; PackageReference: S5-5; PackageDescription: 5-Pin Plastic TSOT-23, Body 1.63 x 2.90 mm, Pitch 0.95 mm; Supplier 1: Farnell; Supplier Part Number 1: 1858697; Supplier 2: Newark; Supplier Part Number 2: 61R9519; RoHS: TRUE; Mounting Technology: Surface Mount; Code_JEDEC: MO-193; ComponentLink1Description: Manufacturer URL; ComponentLink1URL: http://www.linear.com/; ComponentLink2Description: Datasheet; ComponentLink2URL: http://cds.linear.com/docs/en/datasheet/1844fa.pdf; ComponentLink3Description: Package Specification; ComponentLink3URL: http://cds.linear.com/docs/en/packaging/SOT_5_05-08-1635.pdf
footprint LT-S5-5-TSOT-23_N (SOT23, 5-Leads, Body 2.90x1.63mm, Pitch 0.95mm, IPC Medium Density)
footprint LT-S5-5-TSOT-23_L (SOT23, 5-Leads, Body 2.90x1.63mm, Pitch 0.95mm, IPC High Density)
footprint LT-S5-5-TSOT-23_M (SOT23, 5-Leads, Body 2.90x1.63mm, Pitch 0.95mm, IPC Low Density)
pins: 1 IN (power) "Power is supplied to the device through the IN pin.", 2 GND (power) "Ground.", 3 ~{SHDN} (in) "Shutdown.", 4 BYP "Bypass. If not used, this pin must be left unconnected.", 5 OUT (power) "The output supplies power to the load. A minimum output capacitor of 1uF is required to prevent oscillations. Larger output capacitors will be required for applications with large transient loads to limit peak voltage (See Datasheet)"

## LTC1844ES5-1.8#TR
designator U?
150 mA, Micropower, Low Noise, VLDO Linear Regulator, 1.6 to 6.5 V Vin, 1.8 V Vout, 5-pin SOT23 (S5-5), -40 to 125 degC, Tape and Reel; Manufacturer: Linear Technology; PartNumber: LTC1844ES5-1.8#TR; Discrete Pass Element: no; Dropout Voltage(V): 0.23; Iout(mA): 150; Isupply(mA): 0.035; Noise(uV): 60; Number of Outputs: 1; Output Voltage: 1.8 V; PSRR(dB): 50; Shutdown Current(uA): 0.01; Vin Max(V): 6.5; Vin Min(V): 1.6; DatasheetVersion: Rev. A; PackageVersion: Jun-10; PackageReference: S5-5; PackageDescription: 5-Pin Plastic TSOT-23, Body 1.63 x 2.90 mm, Pitch 0.95 mm; Supplier 1: Digi-Key; Supplier Part Number 1: LTC1844ES5-1.8#TR-ND; Packing: Tape and Reel; RoHS: FALSE; Mounting Technology: Surface Mount; Code_JEDEC: MO-193; ComponentLink1Description: Manufacturer URL; ComponentLink1URL: http://www.linear.com/; ComponentLink2Description: Datasheet; ComponentLink2URL: http://cds.linear.com/docs/en/datasheet/1844fa.pdf; ComponentLink3Description: Package Specification; ComponentLink3URL: http://cds.linear.com/docs/en/packaging/SOT_5_05-08-1635.pdf
footprint LT-S5-5-TSOT-23_N (SOT23, 5-Leads, Body 2.90x1.63mm, Pitch 0.95mm, IPC Medium Density)
footprint LT-S5-5-TSOT-23_L (SOT23, 5-Leads, Body 2.90x1.63mm, Pitch 0.95mm, IPC High Density)
footprint LT-S5-5-TSOT-23_M (SOT23, 5-Leads, Body 2.90x1.63mm, Pitch 0.95mm, IPC Low Density)
pins: 1 IN (power) "Power is supplied to the device through the IN pin.", 2 GND (power) "Ground.", 3 ~{SHDN} (in) "Shutdown.", 4 BYP "Bypass. If not used, this pin must be left unconnected.", 5 OUT (power) "The output supplies power to the load. A minimum output capacitor of 1uF is required to prevent oscillations. Larger output capacitors will be required for applications with large transient loads to limit peak voltage (See Datasheet)"

## LTC1844ES5-1.8#TRM
designator U?
150 mA, Micropower, Low Noise, VLDO Linear Regulator, 1.6 to 6.5 V Vin, 1.8 V Vout, 5-pin SOT23 (S5-5), -40 to 125 degC, Mini Tape and Reel; Manufacturer: Linear Technology; PartNumber: LTC1844ES5-1.8#TRM; Discrete Pass Element: no; Dropout Voltage(V): 0.23; Iout(mA): 150; Isupply(mA): 0.035; Noise(uV): 60; Number of Outputs: 1; Output Voltage: 1.8 V; PSRR(dB): 50; Shutdown Current(uA): 0.01; Vin Max(V): 6.5; Vin Min(V): 1.6; DatasheetVersion: Rev. A; PackageVersion: Jun-10; PackageReference: S5-5; PackageDescription: 5-Pin Plastic TSOT-23, Body 1.63 x 2.90 mm, Pitch 0.95 mm; Supplier 1: Digi-Key; Supplier Part Number 1: LTC1844ES5-1.8#TRMTR-ND; Supplier 2: Digi-Key; Supplier Part Number 2: LTC1844ES5-1.8#TRMCT-ND; Supplier 3: Newark; Supplier Part Number 3: 56M3918; Packing: Mini Tape and Reel; RoHS: FALSE; Mounting Technology: Surface Mount; Code_JEDEC: MO-193; ComponentLink1Description: Manufacturer URL; ComponentLink1URL: http://www.linear.com/; ComponentLink2Description: Datasheet; ComponentLink2URL: http://cds.linear.com/docs/en/datasheet/1844fa.pdf; ComponentLink3Description: Package Specification; ComponentLink3URL: http://cds.linear.com/docs/en/packaging/SOT_5_05-08-1635.pdf
footprint LT-S5-5-TSOT-23_N (SOT23, 5-Leads, Body 2.90x1.63mm, Pitch 0.95mm, IPC Medium Density)
footprint LT-S5-5-TSOT-23_L (SOT23, 5-Leads, Body 2.90x1.63mm, Pitch 0.95mm, IPC High Density)
footprint LT-S5-5-TSOT-23_M (SOT23, 5-Leads, Body 2.90x1.63mm, Pitch 0.95mm, IPC Low Density)
pins: 1 IN (power) "Power is supplied to the device through the IN pin.", 2 GND (power) "Ground.", 3 ~{SHDN} (in) "Shutdown.", 4 BYP "Bypass. If not used, this pin must be left unconnected.", 5 OUT (power) "The output supplies power to the load. A minimum output capacitor of 1uF is required to prevent oscillations. Larger output capacitors will be required for applications with large transient loads to limit peak voltage (See Datasheet)"

## LTC1844ES5-1.8#TRMPBF
designator U?
150 mA, Micropower, Low Noise, VLDO Linear Regulator, 1.6 to 6.5 V Vin, 1.8 V Vout, 5-pin SOT23 (S5-5), -40 to 125 degC, Pb-Free, Mini Tape and Reel; Manufacturer: Linear Technology; PartNumber: LTC1844ES5-1.8#TRMPBF; Discrete Pass Element: no; Dropout Voltage(V): 0.23; Iout(mA): 150; Isupply(mA): 0.035; Noise(uV): 60; Number of Outputs: 1; Output Voltage: 1.8 V; PSRR(dB): 50; Shutdown Current(uA): 0.01; Vin Max(V): 6.5; Vin Min(V): 1.6; DatasheetVersion: Rev. A; PackageVersion: Jun-10; PackageReference: S5-5; PackageDescription: 5-Pin Plastic TSOT-23, Body 1.63 x 2.90 mm, Pitch 0.95 mm; Supplier 1: Digi-Key; Supplier Part Number 1: LTC1844ES5-1.8#TRMPBFTR-ND; Supplier 2: Digi-Key; Supplier Part Number 2: LTC1844ES5-1.8#TRMPBFCT-ND; Supplier 3: Digi-Key; Supplier Part Number 3: LTC1844ES5-1.8#TRMPBFDKR-ND; Supplier 4: Farnell; Supplier Part Number 4: 1663865; Supplier 5: Newark; Supplier Part Number 5: 56M3919; Packing: Mini Tape and Reel; RoHS: TRUE; Mounting Technology: Surface Mount; Code_JEDEC: MO-193; ComponentLink1Description: Manufacturer URL; ComponentLink1URL: http://www.linear.com/; ComponentLink2Description: Datasheet; ComponentLink2URL: http://cds.linear.com/docs/en/datasheet/1844fa.pdf; ComponentLink3Description: Package Specification; ComponentLink3URL: http://cds.linear.com/docs/en/packaging/SOT_5_05-08-1635.pdf
footprint LT-S5-5-TSOT-23_N (SOT23, 5-Leads, Body 2.90x1.63mm, Pitch 0.95mm, IPC Medium Density)
footprint LT-S5-5-TSOT-23_L (SOT23, 5-Leads, Body 2.90x1.63mm, Pitch 0.95mm, IPC High Density)
footprint LT-S5-5-TSOT-23_M (SOT23, 5-Leads, Body 2.90x1.63mm, Pitch 0.95mm, IPC Low Density)
pins: 1 IN (power) "Power is supplied to the device through the IN pin.", 2 GND (power) "Ground.", 3 ~{SHDN} (in) "Shutdown.", 4 BYP "Bypass. If not used, this pin must be left unconnected.", 5 OUT (power) "The output supplies power to the load. A minimum output capacitor of 1uF is required to prevent oscillations. Larger output capacitors will be required for applications with large transient loads to limit peak voltage (See Datasheet)"

## LTC1844ES5-1.8#TRPBF
designator U?
150 mA, Micropower, Low Noise, VLDO Linear Regulator, 1.6 to 6.5 V Vin, 1.8 V Vout, 5-pin SOT23 (S5-5), -40 to 125 degC, Pb-Free, Tape and Reel; Manufacturer: Linear Technology; PartNumber: LTC1844ES5-1.8#TRPBF; Discrete Pass Element: no; Dropout Voltage(V): 0.23; Iout(mA): 150; Isupply(mA): 0.035; Noise(uV): 60; Number of Outputs: 1; Output Voltage: 1.8 V; PSRR(dB): 50; Shutdown Current(uA): 0.01; Vin Max(V): 6.5; Vin Min(V): 1.6; DatasheetVersion: Rev. A; PackageVersion: Jun-10; PackageReference: S5-5; PackageDescription: 5-Pin Plastic TSOT-23, Body 1.63 x 2.90 mm, Pitch 0.95 mm; Supplier 1: Digi-Key; Supplier Part Number 1: LTC1844ES5-1.8#TRPBF-ND; Supplier 2: Newark; Supplier Part Number 2: 56M3920; Packing: Tape and Reel; RoHS: TRUE; Mounting Technology: Surface Mount; Code_JEDEC: MO-193; ComponentLink1Description: Manufacturer URL; ComponentLink1URL: http://www.linear.com/; ComponentLink2Description: Datasheet; ComponentLink2URL: http://cds.linear.com/docs/en/datasheet/1844fa.pdf; ComponentLink3Description: Package Specification; ComponentLink3URL: http://cds.linear.com/docs/en/packaging/SOT_5_05-08-1635.pdf
footprint LT-S5-5-TSOT-23_N (SOT23, 5-Leads, Body 2.90x1.63mm, Pitch 0.95mm, IPC Medium Density)
footprint LT-S5-5-TSOT-23_L (SOT23, 5-Leads, Body 2.90x1.63mm, Pitch 0.95mm, IPC High Density)
footprint LT-S5-5-TSOT-23_M (SOT23, 5-Leads, Body 2.90x1.63mm, Pitch 0.95mm, IPC Low Density)
pins: 1 IN (power) "Power is supplied to the device through the IN pin.", 2 GND (power) "Ground.", 3 ~{SHDN} (in) "Shutdown.", 4 BYP "Bypass. If not used, this pin must be left unconnected.", 5 OUT (power) "The output supplies power to the load. A minimum output capacitor of 1uF is required to prevent oscillations. Larger output capacitors will be required for applications with large transient loads to limit peak voltage (See Datasheet)"